# EAGLE library part NOBLE (library Pots - custom)
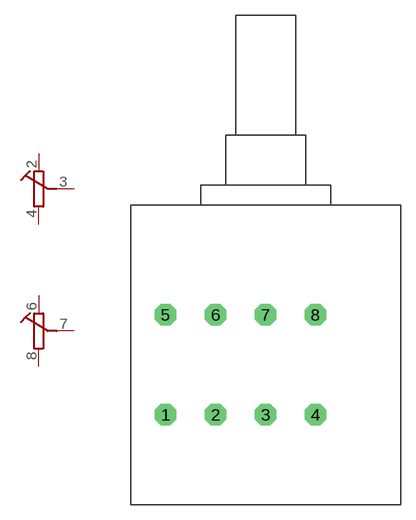
[diagram p0: symbol with the pads of NOBLE; footprint NOBLE]

Designator prefix -; gates G$1=NOBLE G$2=NOBLE

## NOBLE  [NOBLE]
2  G$1:IN
3  G$1:OUT
4  G$1:GND
6  G$2:IN
7  G$2:OUT
8  G$2:GND

## Footprint NOBLE (pad centres in mm)
drill 1.016 pad 2.184 octagon: 1 -10,-5; 2 -5,-5; 3 0,-5; 4 5,-5; 5 -10,5; 6 -5,5; 7 0,5; 8 5,5